# EAGLE library part M06 (library FPV-Auto)
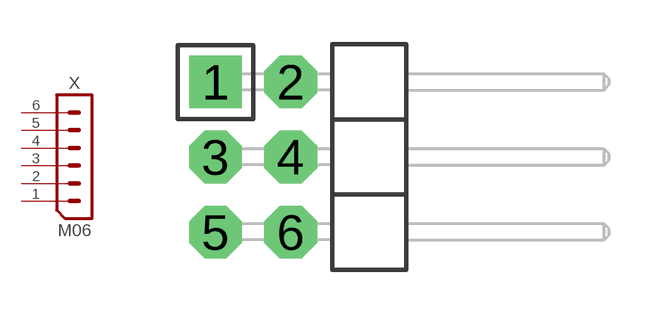
[diagram p5: symbol with the pads of M2X03R; footprint M2X03R]

Designator prefix X

## M06_2X03R  [M2X03R]
1  1  pas
2  2  pas
3  3  pas
4  4  pas
5  5  pas
6  6  pas

## Footprint M2X03R (pad centres in mm)
PIN HEADER
drill 1.02 pad 1.778 square: 1 0,0
drill 1.02 pad 1.778 octagon: 2 2.54,0; 3 0,-2.54; 4 2.54,-2.54; 5 0,-5.08; 6 2.54,-5.08